# EAGLE library part IV-22 (library iStivi - Tubes)
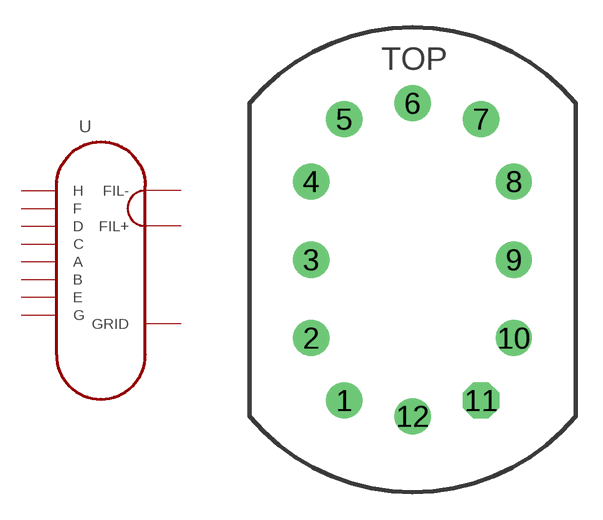
[diagram p5: symbol with the pads of IV-22; footprint IV-22]

Designator prefix -

## IV-22  [IV-22]
1  H
2  F
3  D
4  C
5  FIL-
6  GRID
7  A
8  B
10  E
11  G
12  FIL+

## Footprint IV-22 (pad centres in mm)
drill 0.9 pad 2: 1 -3.78,-7.766; 2 -5.59,-4.32; 3 -5.59,0; 4 -5.59,4.32; 5 -3.78,7.766; 6 0,8.64; 7 3.78,7.766; 8 5.59,4.32; 9 5.59,0; 10 5.59,-4.32; 12 0,-8.64
drill 0.9 pad 2 octagon: 11 3.78,-7.766